# EAGLE library part MCP3423 (library Microchip)
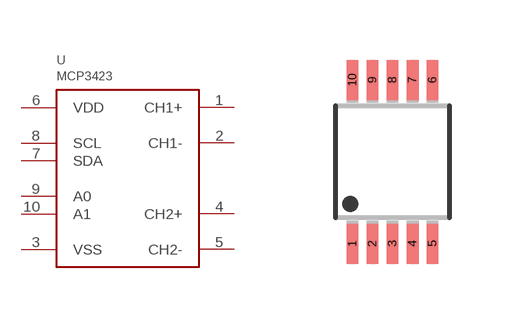
[diagram p3: symbol with the pads of MSOP10; footprint MSOP10]

Designator prefix U

## MCP3423  [MSOP10]
1  CH1+
2  CH1-
3  VSS
4  CH2+
5  CH2-
6  VDD
7  SDA
8  SCL
9  A0
10  A1

## Footprint MSOP10 (pad centres in mm)
smd 0.3 x 1: 1 -1,-2.05; 2 -0.5,-2.05; 3 0,-2.05; 4 0.5,-2.05; 5 1,-2.05; 6 1,2.05; 7 0.5,2.05; 8 0,2.05; 9 -0.5,2.05; 10 -1,2.05